# Altium footprint library 电位器.PcbLib: 35 footprints (part 2 of 3)
Each footprint in its own frame and in the unit in brackets; x right, y up, seen from the top. Pads: shape width x height; smd on the part's side, far side on the other; paste and mask are expansions set on the pad; w line width, h text height; cw(c..) or ccw(c..) is an arc to the next point about the centre after c.
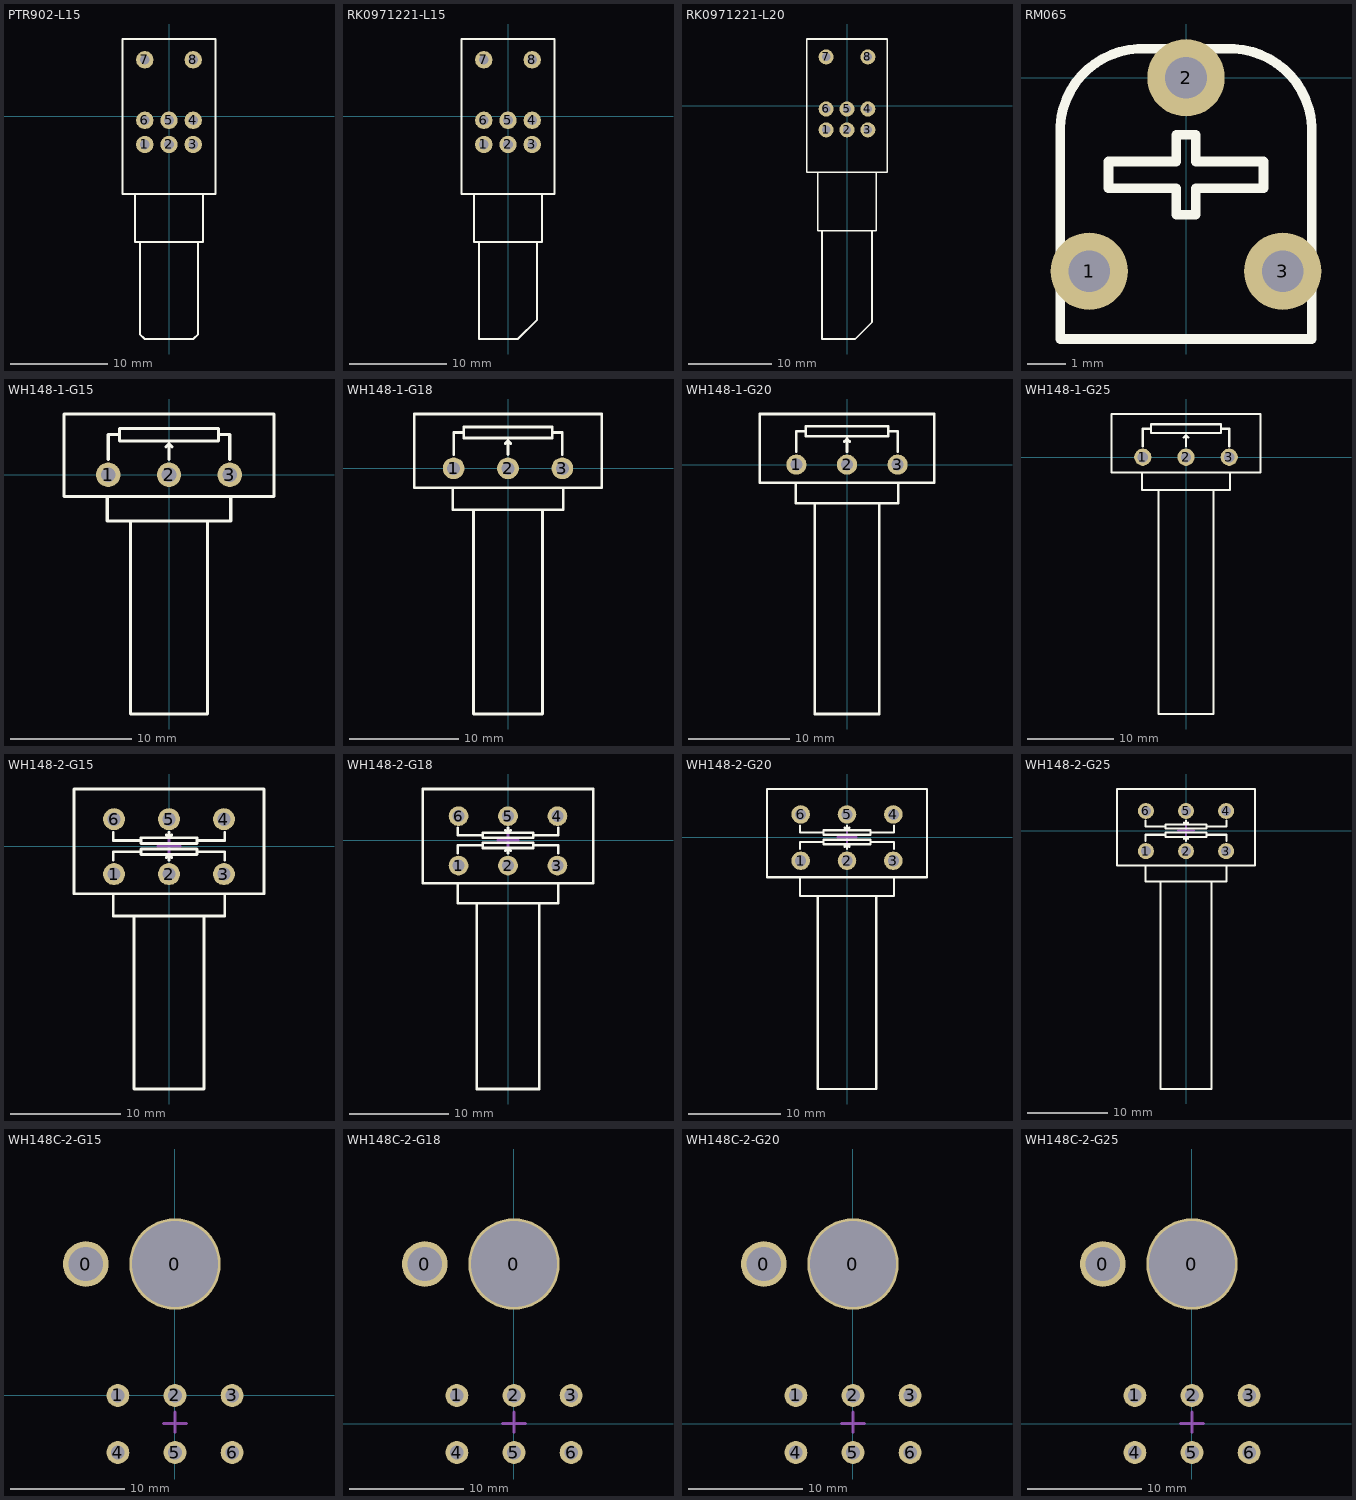
[diagram p1: the footprints below, top view; thin cyan lines are the x and y axes]

## PTR902-L15 [mm] "双联电位器带开关（柄长15mm）"
pads (8):
  round 1.8 hole 1: 1(-2.5,-2.9) 2(0,-2.9) 3(2.5,-2.9) 4(2.5,-0.4) 5(0,-0.4) 6(-2.5,-0.4) 7(-2.5,5.85) 8(2.5,5.85)
Top Overlay:
  lines w0.203: -3.5,-8 -3.5,-13 3.5,-13 3.5,-8 ; -3,-13 -3,-22.5 -2.5,-23 2.5,-23 3,-22.5 3,-13 ; -4.826,-8 4.826,-8 4.826,8 -4.826,8 -4.826,-8
Mechanical 15:
  circle w0.05: c0,0 r0.35
  lines w0.05: -0.5,0 0.5,0 ; 0,-0.5 0,0.5
3D body "PTR902.STEP": height 11.35, standoff -3.5, extent -4.75,-22.9 4.75,7.9

## RK0971221-L15 [mm] "双联音量电位器带开关（柄长15mm）"
pads (8):
  round 1.8 hole 1: 1(-2.5,-2.9) 2(0,-2.9) 3(2.5,-2.9) 4(2.5,-0.4) 5(0,-0.4) 6(-2.5,-0.4) 7(-2.5,5.85) 8(2.5,5.85)
Top Overlay:
  lines w0.203: -3.5,-8 -3.5,-13 3.5,-13 3.5,-8 ; -3,-13 -3,-23 1,-23 3,-21 3,-13 ; -4.826,-8 4.826,-8 4.826,8 -4.826,8 -4.826,-8
Mechanical 15:
  circle w0.05: c0,0 r0.35
  lines w0.05: -0.5,0 0.5,0 ; 0,-0.5 0,0.5
3D body "RK0971221-L15.STEP": height 11.35, standoff -3.5, extent -4.75,-22.9 4.75,7.9

## RK0971221-L20 [mm] "双联音量电位器带开关（柄长20mm）"
pads (8):
  round 1.8 hole 1: 1(-2.5,-2.9) 2(0,-2.9) 3(2.5,-2.9) 4(2.5,-0.4) 5(0,-0.4) 6(-2.5,-0.4) 7(-2.5,5.85) 8(2.5,5.85)
Top Overlay:
  lines w0.203: -3.5,-8 -3.5,-15 3.5,-15 3.5,-8 ; -3,-15 -3,-28 1,-28 3,-26 3,-15 ; -4.826,-8 4.826,-8 4.826,8 -4.826,8 -4.826,-8
Mechanical 15:
  circle w0.05: c0,0 r0.35
  lines w0.05: -0.5,0 0.5,0 ; 0,-0.5 0,0.5
3D body "RK0971221-L20.STEP": height 11.35, standoff -3.5, extent -4.75,-27.9 4.75,7.9

## RM065 [mil] "蓝白可调电位器"
pads (3):
  round 80 hole 43.31: 1(-100,-200) 2(0,0) 3(100,-200)
Top Overlay:
  lines w10: -130,-270 130,-270 130,-50 ccw(c45,-55) 40,30 -40,30 ccw(c-45,-55) -130,-50 -130,-270 ; -80,-114.17 -80,-86.61 -10,-86.61 -10,-70 -10,-59.06 10,-59.06 10,-86.61 80,-86.61 80,-114.17 10,-114.17 10,-141.73 -10,-141.73 -10,-114.17 -80,-114.17
3D body "RM065.STEP": height 299.21, standoff -137.8, extent -127.95,-268.83 127.96,29.59

## WH148-1-G15 [mm] "单联电位器，脚距：5mm，柄长：15mm"
pads (3):
  round 2 hole 1.2: 1(-5,0) 2(0,0) 3(5,0)
Top Overlay:
  lines w0.254: -5.08,-1.778 -5.08,-3.8 5.08,-3.8 5.08,-1.778 ; -5,1.27 -5,3.302 -4.064,3.302 ; -3.175,-3.81 -3.175,-19.685 3.175,-19.685 3.175,-3.81 ; -0.254,2.286 0,2.54 ; 0,1.27 0,2.54 ; 0.254,2.286 0,2.54 ; 4.064,3.302 4.572,3.302 5,3.302 5,1.27 ; -8.636,-1.778 -8.636,5 8.636,5 8.636,-1.778 -8.636,-1.778 ; -4.064,2.794 -4.064,3.81 4.064,3.81 4.064,2.794 -4.064,2.794
3D body "WH148-1-G15.STEP": height 20.95, standoff -3.8, extent -8.45,-19.5 8.45,4.8

## WH148-1-G18 [mm] "单联电位器，脚距：5mm，柄长：18mm"
pads (3):
  round 2 hole 1.2: 1(-5,0) 2(0,0) 3(5,0)
Top Overlay:
  lines w0.254: -5.08,-1.778 -5.08,-3.8 5.08,-3.8 5.08,-1.778 ; -5,1.27 -5,3.302 -4.064,3.302 ; -3.175,-3.81 -3.175,-22.606 3.175,-22.606 3.175,-3.81 ; -0.254,2.286 0,2.54 ; 0,1.27 0,2.54 ; 0.254,2.286 0,2.54 ; 4.064,3.302 4.572,3.302 5,3.302 5,1.27 ; -8.636,-1.778 8.636,-1.778 8.636,5 -8.636,5 -8.636,-1.778 ; -4.064,2.794 4.064,2.794 4.064,3.81 -4.064,3.81 -4.064,2.794
3D body "WH148-1-G18.STEP": height 20.95, standoff -3.8, extent -8.45,-22.5 8.45,4.8

## WH148-1-G20 [mm] "单联电位器，脚距：5mm，柄长：20mm"
pads (3):
  round 2 hole 1.2: 1(-5,0) 2(0,0) 3(5,0)
Top Overlay:
  lines w0.254: -5.08,-1.778 -5.08,-3.8 5.08,-3.8 5.08,-1.778 ; -5,1.27 -5,3.302 -4.064,3.302 ; -3.175,-3.81 -3.175,-24.638 3.175,-24.638 3.175,-3.81 ; -0.254,2.286 0,2.54 ; 0,1.27 0,2.54 ; 0.254,2.286 0,2.54 ; 4.064,3.302 4.572,3.302 5,3.302 5,1.27 ; -8.636,-1.778 -8.636,5 8.636,5 8.636,-1.778 -8.636,-1.778 ; -4.064,2.794 -4.064,3.81 4.064,3.81 4.064,2.794 -4.064,2.794
3D body "WH148-1-G20.STEP": height 20.95, standoff -3.8, extent -8.45,-24.5 8.45,4.8

## WH148-1-G25 [mm] "单联电位器，脚距：5mm，柄长：25mm"
pads (3):
  round 2 hole 1.2: 1(-5,0) 2(0,0) 3(5,0)
Top Overlay:
  lines w0.254: -5.08,-1.778 -5.08,-3.8 5.08,-3.8 5.08,-1.778 ; -5,1.27 -5,3.302 -4.064,3.302 ; -3.175,-3.81 -3.175,-29.718 3.175,-29.718 3.175,-3.81 ; -0.254,2.286 0,2.54 ; 0,1.27 0,2.54 ; 0.254,2.286 0,2.54 ; 4.064,3.302 4.572,3.302 5,3.302 5,1.27 ; -8.636,-1.778 -8.636,5 8.636,5 8.636,-1.778 -8.636,-1.778 ; -4.064,2.794 -4.064,3.81 4.064,3.81 4.064,2.794 -4.064,2.794
3D body "WH148-1-G25.STEP": height 20.95, standoff -3.8, extent -8.45,-29.5 8.45,4.8

## WH148-2-G15 [mm] "双联电位器，脚距：5mm，柄长：15mm"
pads (6):
  round 2 hole 1.2: 1(-5,-2.54) 2(0,-2.54) 3(5,-2.54) 4(5,2.46) 5(0,2.46) 6(-5,2.46)
Top Overlay:
  lines w0.254: -5.08,-4.318 -5.08,-6.34 5.08,-6.34 5.08,-4.318 ; -5.08,-1.27 -5.08,-0.508 -2.54,-0.508 ; -5.08,1.27 -5.08,0.508 -2.54,0.508 ; -3.175,-6.35 -3.175,-22.098 3.175,-22.098 3.175,-6.35 ; -0.254,-1.016 0,-0.762 ; -0.254,1.016 0,0.762 ; 0,-1.27 0,-0.762 ; 0,1.27 0,0.762 ; 0.254,-1.016 0,-0.762 ; 0.254,1.016 0,0.762 ; 2.54,-0.508 5.08,-0.508 5.08,-1.27 ; 2.54,0.508 5.08,0.508 5.08,1.27 ; -2.54,-0.508 -2.54,-0.254 2.54,-0.254 2.54,-0.762 -2.54,-0.762 -2.54,-0.508 ; -2.54,0.508 -2.54,0.762 2.54,0.762 2.54,0.254 -2.54,0.254 -2.54,0.508 ; -8.636,-4.318 8.636,-4.318 8.636,5.207 -8.636,5.207 -8.636,-4.318
Mechanical 15:
  lines w0.254: -1.016,0 1.016,0 ; 0,-0.762 0,1.016
3D body "WH148-2-G15.STEP": height 20.95, standoff -3.8, extent -8.45,-22 8.45,5.009

## WH148-2-G18 [mm] "双联电位器，脚距：5mm，柄长：18mm"
pads (6):
  round 2 hole 1.2: 1(-5,-2.54) 2(0,-2.54) 3(5,-2.54) 4(5,2.46) 5(0,2.46) 6(-5,2.46)
Top Overlay:
  lines w0.254: -5.08,-4.318 -5.08,-6.34 5.08,-6.34 5.08,-4.318 ; -5.08,-1.27 -5.08,-0.508 -2.54,-0.508 ; -5.08,1.27 -5.08,0.508 -2.54,0.508 ; -3.175,-6.35 -3.175,-25.146 3.175,-25.146 3.175,-6.35 ; -0.254,-1.016 0,-0.762 ; -0.254,1.016 0,0.762 ; 0,-1.27 0,-0.762 ; 0,1.27 0,0.762 ; 0.254,-1.016 0,-0.762 ; 0.254,1.016 0,0.762 ; 2.54,-0.508 5.08,-0.508 5.08,-1.27 ; 2.54,0.508 5.08,0.508 5.08,1.27 ; -2.54,-0.508 -2.54,-0.254 2.54,-0.254 2.54,-0.762 -2.54,-0.762 -2.54,-0.508 ; -2.54,0.508 -2.54,0.762 2.54,0.762 2.54,0.254 -2.54,0.254 -2.54,0.508 ; -8.636,-4.318 8.636,-4.318 8.636,5.207 -8.636,5.207 -8.636,-4.318
Mechanical 15:
  lines w0.254: -1.016,0 1.016,0 ; 0,-0.762 0,1.016
3D body "WH148-2-G18.STEP": height 20.95, standoff -3.8, extent -8.45,-25 8.45,5.009

## WH148-2-G20 [mm] "双联电位器，脚距：5mm，柄长：20mm"
pads (6):
  round 2 hole 1.2: 1(-5,-2.54) 2(0,-2.54) 3(5,-2.54) 4(5,2.46) 5(0,2.46) 6(-5,2.46)
Top Overlay:
  lines w0.254: -5.08,-4.318 -5.08,-6.34 5.08,-6.34 5.08,-4.318 ; -5.08,-1.27 -5.08,-0.508 -2.54,-0.508 ; -5.08,1.27 -5.08,0.508 -2.54,0.508 ; -3.175,-6.35 -3.175,-27.178 3.175,-27.178 3.175,-6.35 ; -0.254,-1.016 0,-0.762 ; -0.254,1.016 0,0.762 ; 0,-1.27 0,-0.762 ; 0,1.27 0,0.762 ; 0.254,-1.016 0,-0.762 ; 0.254,1.016 0,0.762 ; 2.54,-0.508 5.08,-0.508 5.08,-1.27 ; 2.54,0.508 5.08,0.508 5.08,1.27 ; -2.54,-0.508 -2.54,-0.254 2.54,-0.254 2.54,-0.762 -2.54,-0.762 -2.54,-0.508 ; -2.54,0.508 -2.54,0.762 2.54,0.762 2.54,0.254 -2.54,0.254 -2.54,0.508 ; -8.636,-4.318 8.636,-4.318 8.636,5.207 -8.636,5.207 -8.636,-4.318
Mechanical 15:
  lines w0.254: -1.016,0 1.016,0 ; 0,-0.762 0,1.016
3D body "WH148-2-G20.STEP": height 20.95, standoff -3.8, extent -8.45,-27 8.45,5.009

## WH148-2-G25 [mm] "双联电位器，脚距：5mm，柄长：25mm"
pads (6):
  round 2 hole 1.2: 1(-5,-2.54) 2(0,-2.54) 3(5,-2.54) 4(5,2.46) 5(0,2.46) 6(-5,2.46)
Top Overlay:
  lines w0.254: -5.08,-4.318 -5.08,-6.34 5.08,-6.34 5.08,-4.318 ; -5.08,-1.27 -5.08,-0.508 -2.54,-0.508 ; -5.08,1.27 -5.08,0.508 -2.54,0.508 ; -3.175,-6.35 -3.175,-32.258 3.175,-32.258 3.175,-6.35 ; -0.254,-1.016 0,-0.762 ; -0.254,1.016 0,0.762 ; 0,-1.27 0,-0.762 ; 0,1.27 0,0.762 ; 0.254,-1.016 0,-0.762 ; 0.254,1.016 0,0.762 ; 2.54,-0.508 5.08,-0.508 5.08,-1.27 ; 2.54,0.508 5.08,0.508 5.08,1.27 ; -2.54,-0.508 -2.54,-0.762 2.54,-0.762 2.54,-0.254 -2.54,-0.254 -2.54,-0.508 ; -2.54,0.508 -2.54,0.254 2.54,0.254 2.54,0.762 -2.54,0.762 -2.54,0.508 ; -8.636,-4.318 -8.636,5.207 8.636,5.207 8.636,-4.318 -8.636,-4.318
Mechanical 15:
  lines w0.254: -1.016,0 1.016,0 ; 0,-0.762 0,1.016
3D body "WH148-2-G25.STEP": height 20.95, standoff -3.8, extent -8.45,-32 8.45,5.009

## WH148C-2-G15 [mm] "双联弯脚电位器，脚距：5mm，柄长：15mm"
pads (8):
  round 4 hole 3: 0(-7.8,11.5)
  round 8 hole 7.5: 0(0,11.5)
  round 2 hole 1.2: 1(-5,0) 2(0,0) 3(5,0) 4(-5,-5) 5(0,-5) 6(5,-5)
Bottom Overlay:
  lines w0.254: -8,7.876 -8,-5.22 -6.25,-5.22 ; -7.97,7.889 cw(c0,11.5) 7.981,7.913 ; -5.08,-3.73 -5.08,-2.968 -2.54,-2.968 ; -5.08,-1.19 -5.08,-1.952 -2.54,-1.952 ; -3.75,-5.22 -1.25,-5.22 ; -0.254,-3.476 0,-3.222 ; -0.254,-1.444 0,-1.698 ; 0,-3.73 0,-3.222 ; 0,-1.19 0,-1.698 ; 0.254,-3.476 0,-3.222 ; 0.254,-1.444 0,-1.698 ; 1.25,-5.22 3.75,-5.22 ; 2.54,-2.968 5.08,-2.968 5.08,-3.73 ; 2.54,-1.952 5.08,-1.952 5.08,-1.19 ; 6.25,-5.22 8,-5.22 8,7.905 ; -2.54,-2.968 -2.54,-3.222 2.54,-3.222 2.54,-2.714 -2.54,-2.714 -2.54,-2.968 ; -2.54,-1.952 -2.54,-2.206 2.54,-2.206 2.54,-1.698 -2.54,-1.698 -2.54,-1.952
Mechanical 15:
  lines w0.254: -1.016,-2.46 1.016,-2.46 ; 0,-3.222 0,-1.444
3D body "WH148C-2-G15.STEP": height 14.5, standoff -12.51, extent -8.375,-5.2 8.525,19.95

## WH148C-2-G18 [mm] "双联弯脚电位器，脚距：5mm，柄长：18mm"
pads (8):
  round 4 hole 3: 0(-7.8,13.97)
  round 8 hole 7.5: 0(0,13.97)
  round 2 hole 1.2: 1(-5,2.47) 2(0,2.47) 3(5,2.47) 4(-5,-2.53) 5(0,-2.53) 6(5,-2.53)
Bottom Overlay:
  lines w0.254: -8,10.346 -8,-2.75 -6.25,-2.75 ; -7.97,10.359 cw(c0,13.97) 7.981,10.383 ; -5.08,-1.26 -5.08,-0.498 -2.54,-0.498 ; -5.08,1.28 -5.08,0.518 -2.54,0.518 ; -3.75,-2.75 -1.25,-2.75 ; -0.254,-1.006 0,-0.752 ; -0.254,1.026 0,0.772 ; 0,-1.26 0,-0.752 ; 0,1.28 0,0.772 ; 0.254,-1.006 0,-0.752 ; 0.254,1.026 0,0.772 ; 1.25,-2.75 3.75,-2.75 ; 2.54,-0.498 5.08,-0.498 5.08,-1.26 ; 2.54,0.518 5.08,0.518 5.08,1.28 ; 6.25,-2.75 8,-2.75 8,10.375 ; -2.54,-0.498 -2.54,-0.244 2.54,-0.244 2.54,-0.752 -2.54,-0.752 -2.54,-0.498 ; -2.54,0.518 -2.54,0.772 2.54,0.772 2.54,0.264 -2.54,0.264 -2.54,0.518
Mechanical 15:
  lines w0.254: -1.016,0.01 1.016,0.01 ; 0,-0.752 0,1.026
3D body "WH148C-2-G18.STEP": height 17.5, standoff -12.51, extent -8.375,-2.73 8.525,22.42

## WH148C-2-G20 [mm] "双联弯脚电位器，脚距：5mm，柄长：20mm"
pads (8):
  round 4 hole 3: 0(-7.8,13.97)
  round 8 hole 7.5: 0(0,13.97)
  round 2 hole 1.2: 1(-5,2.47) 2(0,2.47) 3(5,2.47) 4(-5,-2.53) 5(0,-2.53) 6(5,-2.53)
Bottom Overlay:
  lines w0.254: -8,10.346 -8,-2.75 -6.25,-2.75 ; -7.97,10.359 cw(c0,13.97) 7.981,10.383 ; -5.08,-1.26 -5.08,-0.498 -2.54,-0.498 ; -5.08,1.28 -5.08,0.518 -2.54,0.518 ; -3.75,-2.75 -1.25,-2.75 ; -0.254,-1.006 0,-0.752 ; -0.254,1.026 0,0.772 ; 0,-1.26 0,-0.752 ; 0,1.28 0,0.772 ; 0.254,-1.006 0,-0.752 ; 0.254,1.026 0,0.772 ; 1.25,-2.75 3.75,-2.75 ; 2.54,-0.498 5.08,-0.498 5.08,-1.26 ; 2.54,0.518 5.08,0.518 5.08,1.28 ; 6.25,-2.75 8,-2.75 8,10.375 ; -2.54,-0.498 -2.54,-0.244 2.54,-0.244 2.54,-0.752 -2.54,-0.752 -2.54,-0.498 ; -2.54,0.518 -2.54,0.772 2.54,0.772 2.54,0.264 -2.54,0.264 -2.54,0.518
Mechanical 15:
  lines w0.254: -1.016,0.01 1.016,0.01 ; 0,-0.752 0,1.026
3D body "WH148C-2-G20.STEP": height 19.5, standoff -12.51, extent -8.375,-2.73 8.525,22.42

## WH148C-2-G25 [mm] "双联弯脚电位器，脚距：5mm，柄长：25mm"
pads (8):
  round 4 hole 3: 0(-7.8,13.97)
  round 8 hole 7.5: 0(0,13.97)
  round 2 hole 1.2: 1(-5,2.47) 2(0,2.47) 3(5,2.47) 4(-5,-2.53) 5(0,-2.53) 6(5,-2.53)
Bottom Overlay:
  lines w0.254: -8,10.346 -8,-2.75 -6.25,-2.75 ; -7.97,10.359 cw(c0,13.97) 7.981,10.383 ; -5.08,-1.26 -5.08,-0.498 -2.54,-0.498 ; -5.08,1.28 -5.08,0.518 -2.54,0.518 ; -3.75,-2.75 -1.25,-2.75 ; -0.254,-1.006 0,-0.752 ; -0.254,1.026 0,0.772 ; 0,-1.26 0,-0.752 ; 0,1.28 0,0.772 ; 0.254,-1.006 0,-0.752 ; 0.254,1.026 0,0.772 ; 1.25,-2.75 3.75,-2.75 ; 2.54,-0.498 5.08,-0.498 5.08,-1.26 ; 2.54,0.518 5.08,0.518 5.08,1.28 ; 6.25,-2.75 8,-2.75 8,10.375 ; -2.54,-0.498 -2.54,-0.244 2.54,-0.244 2.54,-0.752 -2.54,-0.752 -2.54,-0.498 ; -2.54,0.518 -2.54,0.772 2.54,0.772 2.54,0.264 -2.54,0.264 -2.54,0.518
Mechanical 15:
  lines w0.254: -1.016,0.01 1.016,0.01 ; 0,-0.752 0,1.026
3D body "WH148C-2-G25.STEP": height 24.5, standoff -12.51, extent -8.375,-2.73 8.525,22.42